# EAGLE library part PREC03X2 (library con-pinheader-precision)
female precision header
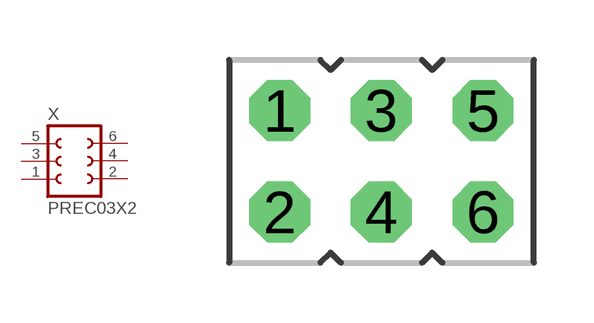
[diagram p51: symbol with the pads of PREC03X2-2.54; footprint PREC03X2-2.54]

Designator prefix X

## PREC03X2-2.54MM  [PREC03X2-2.54]
1  1  pas
2  2  pas
3  3  pas
4  4  pas
5  5  pas
6  6  pas

## Footprint PREC03X2-2.54 (pad centres in mm)
female precision header
drill 1.016 octagon: 1 -2.54,1.27; 2 -2.54,-1.27; 3 0,1.27; 4 0,-1.27; 5 2.54,1.27; 6 2.54,-1.27